# EAGLE library part DRV11873PWPR (library DRV11873PWPR)
3-Ph Sensorless BLDC Motor Driver HTSSOP Texas Instruments DRV11873PWPR BLDC Motor Driver IC, 16 V 1.5A, 16-Pin HTSSOP Source: Datasheet <https://componentsearchengine.com/Datasheets/1/DRV11873PWPR.pdf>
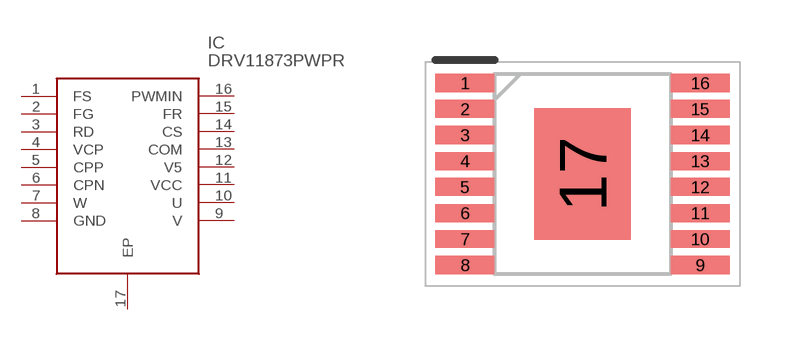
[diagram p0: symbol with the pads of SOP65P640X120-17N; footprint SOP65P640X120-17N]

Designator prefix IC

## DRV11873PWPR (Arrow_Part_Number: DRV11873PWPR; Arrow_Price/Stock: https://www.arrow.com/en/products/drv11873pwpr/texas-instruments; Description: 3-Ph Sensorless BLDC Motor Driver HTSSOP Texas Instruments DRV11873PWPR BLDC Motor Driver IC, 16 V 1.5A, 16-Pin HTSSOP; Height: 1.2mm; Manufacturer_Name: Texas Instruments; Manufacturer_Part_Number: DRV11873PWPR; RS_Part_Number: 1627666; RS_Price/Stock: http://uk.rs-online.com/web/p/products/1627666)  [SOP65P640X120-17N]
1  FS
2  FG
3  RD
4  VCP
5  CPP
6  CPN
7  W
8  GND
9  V
10  U
11  VCC
12  V5
13  COM
14  CS
15  FR
16  PWMIN
17  EP

## Footprint SOP65P640X120-17N (pad centres in mm)
PWP (R-PDSO-G16)
smd 1.475 x 0.45: 1 -2.938,2.275; 2 -2.938,1.625; 3 -2.938,0.975; 4 -2.938,0.325; 5 -2.938,-0.325; 6 -2.938,-0.975; 7 -2.938,-1.625; 8 -2.938,-2.275; 9 2.938,-2.275; 10 2.938,-1.625; 11 2.938,-0.975; 12 2.938,-0.325; 13 2.938,0.325; 14 2.938,0.975; 15 2.938,1.625; 16 2.938,2.275
smd 2.41 x 3.29: 17 0,0